# Altium integrated library TI Power Management Linear Regulator Single Channel LDO (0-350mA).IntLib: 1648 symbols (part 27 of 66)
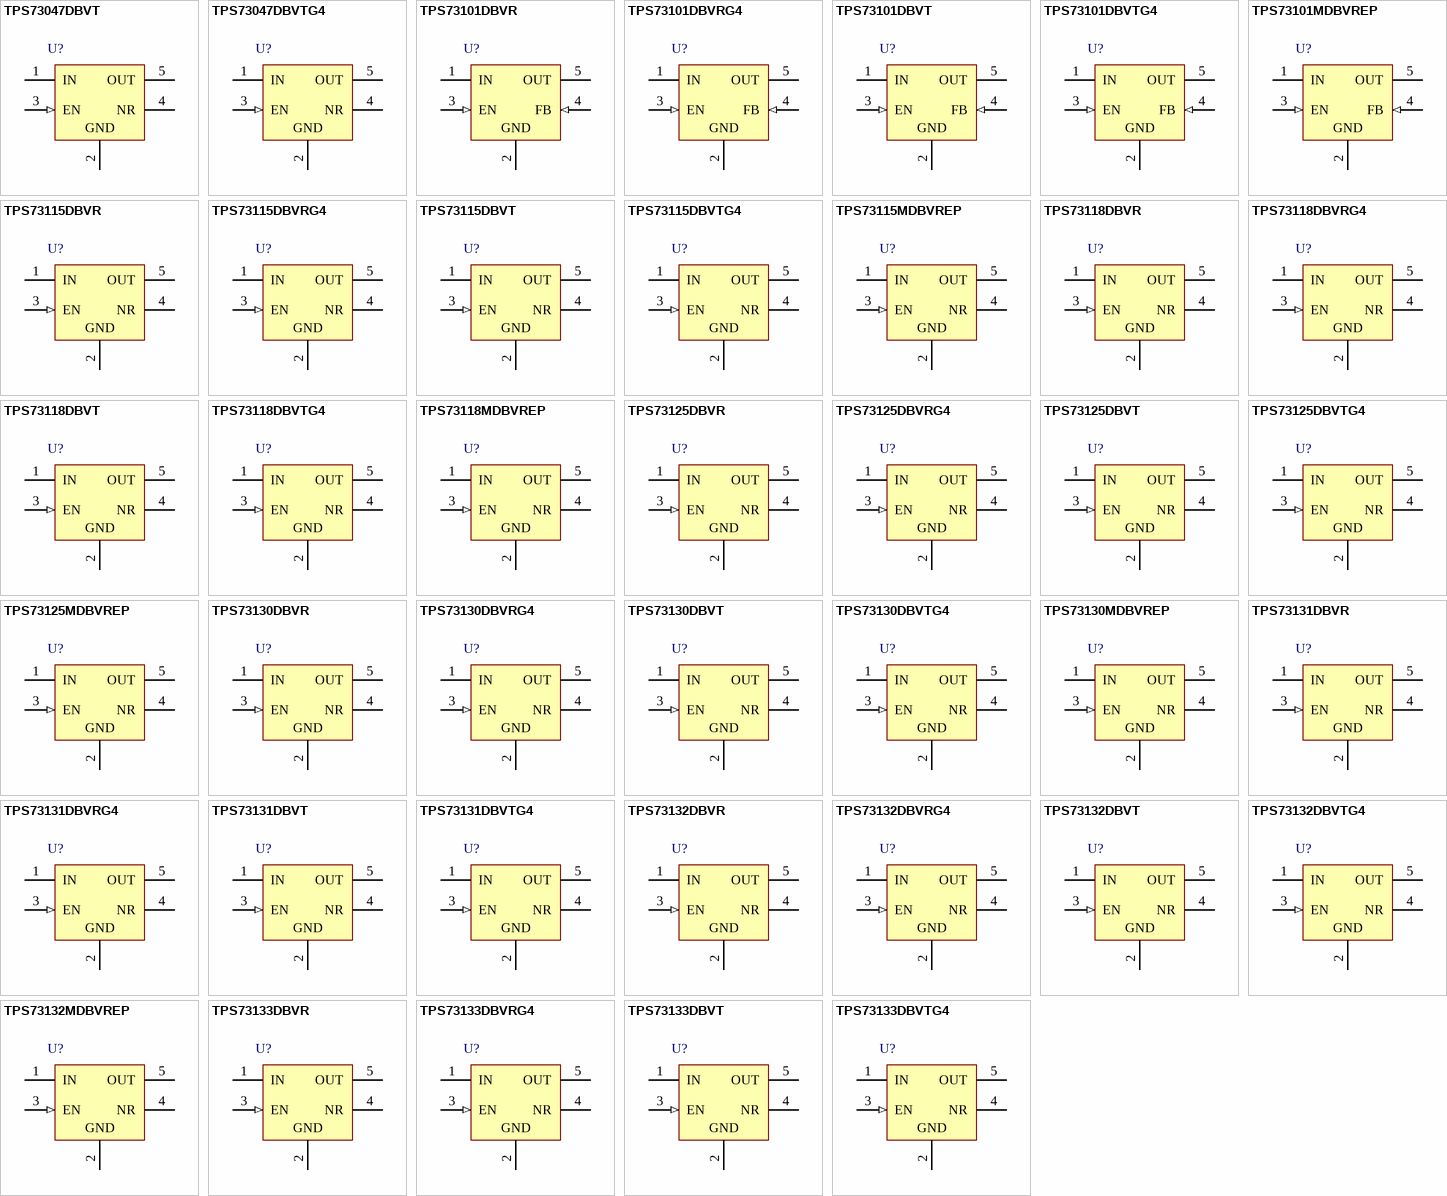
[diagram p68: symbols TPS73047DBVT to TPS73133DBVTG4]

## TPS73132DBVR
designator U?
Single Output Fast Transient Response LDO, 150 mA, Fixed 3.2 V Output, 1.7 to 5.5 V Input, 5-pin SOT-23 (DBV), -40 to 85 degC, Green (RoHS & no Sb/Br); Manufacturer: Texas Instruments; PartNumber: TPS73132DBVR; Accuracy(%): 1; Fixed Output Options(V): 3.2; Iout(Max)(A): 0.15; Iq(Typ)(mA): 0.4; SubFamily: Single Channel LDO; Vdo(Typ)(mV): 30; Vin(Max)(V): 5.5; Vin(Min)(V): 1.7; DatasheetVersion: SBVS034M; PackageVersion: 4073253-4/K; PackageReference: DBV5; PackageDescription: 5-Pin Plastic Small Outline, Body 1.60 × 2.90 mm, Pitch 0.95 mm; Supplier 1: Digi-Key; Supplier Part Number 1: TPS73132DBVR-ND; Supplier 2: Newark; Supplier Part Number 2: 44J2537; Supplier 3: Mouser; Supplier Part Number 3: 595-TPS73132DBVR; Eco-Plan: Green (RoHS & no Sb/Br); Vout Adj(Max)(V): 3.2; Vout Adj(Min)(V): 3.2; Mounting Technology: Surface Mount; Code_JEDEC: MO-178; ComponentLink1Description: Manufacturer URL; ComponentLink1URL: http://www.ti.com/; ComponentLink2Description: Datasheet; ComponentLink2URL: http://www.ti.com/general/docs/lit/getliterature.tsp?genericPartNumber=TPS73132&fileType=pdf; ComponentLink3Description: Package Specification; ComponentLink3URL: http://www.ti.com/litv/pdf/mpds018i
footprint TI-DBV5_N (SOT23, 5-Leads, Body 2.9x1.6mm, Pitch 0.95mm, IPC Medium Density)
footprint TI-DBV5_L (SOT23, 5-Leads, Body 2.9x1.6mm, Pitch 0.95mm, IPC High Density)
footprint TI-DBV5_M (SOT23, 5-Leads, Body 2.9x1.6mm, Pitch 0.95mm, IPC Low Density)
pins: 1 IN (power) "Input supply.", 2 GND (power) "Ground.", 3 EN (in) "Driving the enable pin (EN) high turns on the regulator .Driving this pin low puts the regulator into shutdown mode.EN can be connected to IN if not used.", 4 NR "Fixed voltage versions only; connecting an external capacitor to this pin bypasses noise generated by the internal bandgap. This capacitor allows output noise to be reduced to very low levels.", 5 OUT (power) "Output for the regulator. A small capacitor (total typical capacitance >= 2.0uF ceramic) is needed from this pin to ground to assure stability."

## TPS73132DBVRG4
designator U?
Single Output Fast Transient Response LDO, 150 mA, Fixed 3.2 V Output, 1.7 to 5.5 V Input, 5-pin SOT-23 (DBV), -40 to 85 degC, Green (RoHS & no Sb/Br); Manufacturer: Texas Instruments; PartNumber: TPS73132DBVRG4; Accuracy(%): 1; Fixed Output Options(V): 3.2; Iout(Max)(A): 0.15; Iq(Typ)(mA): 0.4; SubFamily: Single Channel LDO; Vdo(Typ)(mV): 30; Vin(Max)(V): 5.5; Vin(Min)(V): 1.7; DatasheetVersion: SBVS034M; PackageVersion: 4073253-4/K; PackageReference: DBV5; PackageDescription: 5-Pin Plastic Small Outline, Body 1.60 × 2.90 mm, Pitch 0.95 mm; Supplier 1: Digi-Key; Supplier Part Number 1: TPS73132DBVRG4-ND; Supplier 2: Newark; Supplier Part Number 2: 27M1104; Supplier 3: Mouser; Supplier Part Number 3: 595-TPS73132DBVRG4; Eco-Plan: Green (RoHS & no Sb/Br); Vout Adj(Max)(V): 3.2; Vout Adj(Min)(V): 3.2; Mounting Technology: Surface Mount; Code_JEDEC: MO-178; ComponentLink1Description: Manufacturer URL; ComponentLink1URL: http://www.ti.com/; ComponentLink2Description: Datasheet; ComponentLink2URL: http://www.ti.com/general/docs/lit/getliterature.tsp?genericPartNumber=TPS73132&fileType=pdf; ComponentLink3Description: Package Specification; ComponentLink3URL: http://www.ti.com/litv/pdf/mpds018i
footprint TI-DBV5_N (SOT23, 5-Leads, Body 2.9x1.6mm, Pitch 0.95mm, IPC Medium Density)
footprint TI-DBV5_L (SOT23, 5-Leads, Body 2.9x1.6mm, Pitch 0.95mm, IPC High Density)
footprint TI-DBV5_M (SOT23, 5-Leads, Body 2.9x1.6mm, Pitch 0.95mm, IPC Low Density)
pins: 1 IN (power) "Input supply.", 2 GND (power) "Ground.", 3 EN (in) "Driving the enable pin (EN) high turns on the regulator .Driving this pin low puts the regulator into shutdown mode.EN can be connected to IN if not used.", 4 NR "Fixed voltage versions only; connecting an external capacitor to this pin bypasses noise generated by the internal bandgap. This capacitor allows output noise to be reduced to very low levels.", 5 OUT (power) "Output for the regulator. A small capacitor (total typical capacitance >= 2.0uF ceramic) is needed from this pin to ground to assure stability."

## TPS73132DBVT
designator U?
Single Output Fast Transient Response LDO, 150 mA, Fixed 3.2 V Output, 1.7 to 5.5 V Input, 5-pin SOT-23 (DBV), -40 to 85 degC, Green (RoHS & no Sb/Br); Manufacturer: Texas Instruments; PartNumber: TPS73132DBVT; Accuracy(%): 1; Fixed Output Options(V): 3.2; Iout(Max)(A): 0.15; Iq(Typ)(mA): 0.4; SubFamily: Single Channel LDO; Vdo(Typ)(mV): 30; Vin(Max)(V): 5.5; Vin(Min)(V): 1.7; DatasheetVersion: SBVS034M; PackageVersion: 4073253-4/K; PackageReference: DBV5; PackageDescription: 5-Pin Plastic Small Outline, Body 1.60 × 2.90 mm, Pitch 0.95 mm; Supplier 1: Digi-Key; Supplier Part Number 1: 296-17422-2-ND; Supplier 2: Digi-Key; Supplier Part Number 2: 296-17422-1-ND; Supplier 3: Digi-Key; Supplier Part Number 3: 296-17422-6-ND; Supplier 4: Newark; Supplier Part Number 4: 44J2538; Supplier 5: Mouser; Supplier Part Number 5: 595-TPS73132DBVT; Eco-Plan: Green (RoHS & no Sb/Br); Vout Adj(Max)(V): 3.2; Vout Adj(Min)(V): 3.2; Mounting Technology: Surface Mount; Code_JEDEC: MO-178; ComponentLink1Description: Manufacturer URL; ComponentLink1URL: http://www.ti.com/; ComponentLink2Description: Datasheet; ComponentLink2URL: http://www.ti.com/general/docs/lit/getliterature.tsp?genericPartNumber=TPS73132&fileType=pdf; ComponentLink3Description: Package Specification; ComponentLink3URL: http://www.ti.com/litv/pdf/mpds018i
footprint TI-DBV5_N (SOT23, 5-Leads, Body 2.9x1.6mm, Pitch 0.95mm, IPC Medium Density)
footprint TI-DBV5_L (SOT23, 5-Leads, Body 2.9x1.6mm, Pitch 0.95mm, IPC High Density)
footprint TI-DBV5_M (SOT23, 5-Leads, Body 2.9x1.6mm, Pitch 0.95mm, IPC Low Density)
pins: 1 IN (power) "Input supply.", 2 GND (power) "Ground.", 3 EN (in) "Driving the enable pin (EN) high turns on the regulator .Driving this pin low puts the regulator into shutdown mode.EN can be connected to IN if not used.", 4 NR "Fixed voltage versions only; connecting an external capacitor to this pin bypasses noise generated by the internal bandgap. This capacitor allows output noise to be reduced to very low levels.", 5 OUT (power) "Output for the regulator. A small capacitor (total typical capacitance >= 2.0uF ceramic) is needed from this pin to ground to assure stability."

## TPS73132DBVTG4
designator U?
Single Output Fast Transient Response LDO, 150 mA, Fixed 3.2 V Output, 1.7 to 5.5 V Input, 5-pin SOT-23 (DBV), -40 to 85 degC, Green (RoHS & no Sb/Br); Manufacturer: Texas Instruments; PartNumber: TPS73132DBVTG4; Accuracy(%): 1; Fixed Output Options(V): 3.2; Iout(Max)(A): 0.15; Iq(Typ)(mA): 0.4; SubFamily: Single Channel LDO; Vdo(Typ)(mV): 30; Vin(Max)(V): 5.5; Vin(Min)(V): 1.7; DatasheetVersion: SBVS034M; PackageVersion: 4073253-4/K; PackageReference: DBV5; PackageDescription: 5-Pin Plastic Small Outline, Body 1.60 × 2.90 mm, Pitch 0.95 mm; Supplier 1: Digi-Key; Supplier Part Number 1: TPS73132DBVTG4-ND; Supplier 2: Mouser; Supplier Part Number 2: 595-TPS73132DBVTG4; Eco-Plan: Green (RoHS & no Sb/Br); Vout Adj(Max)(V): 3.2; Vout Adj(Min)(V): 3.2; Mounting Technology: Surface Mount; Code_JEDEC: MO-178; ComponentLink1Description: Manufacturer URL; ComponentLink1URL: http://www.ti.com/; ComponentLink2Description: Datasheet; ComponentLink2URL: http://www.ti.com/general/docs/lit/getliterature.tsp?genericPartNumber=TPS73132&fileType=pdf; ComponentLink3Description: Package Specification; ComponentLink3URL: http://www.ti.com/litv/pdf/mpds018i
footprint TI-DBV5_N (SOT23, 5-Leads, Body 2.9x1.6mm, Pitch 0.95mm, IPC Medium Density)
footprint TI-DBV5_L (SOT23, 5-Leads, Body 2.9x1.6mm, Pitch 0.95mm, IPC High Density)
footprint TI-DBV5_M (SOT23, 5-Leads, Body 2.9x1.6mm, Pitch 0.95mm, IPC Low Density)
pins: 1 IN (power) "Input supply.", 2 GND (power) "Ground.", 3 EN (in) "Driving the enable pin (EN) high turns on the regulator .Driving this pin low puts the regulator into shutdown mode.EN can be connected to IN if not used.", 4 NR "Fixed voltage versions only; connecting an external capacitor to this pin bypasses noise generated by the internal bandgap. This capacitor allows output noise to be reduced to very low levels.", 5 OUT (power) "Output for the regulator. A small capacitor (total typical capacitance >= 2.0uF ceramic) is needed from this pin to ground to assure stability."

## TPS73132MDBVREP
designator U?
Single Output LDO, 150 mA, Fixed 3.2 V Output, 1.7 to 5.5 V Input, with Reverse Current Protection, 5-pin SOT-23 (DBV), -55 to 125 degC, Green (RoHS & no Sb/Br); Manufacturer: Texas Instruments; PartNumber: TPS73132MDBVREP; Accuracy(%): 1; Fixed Output Options(V): 3.2; Iout(Max)(A): 0.15; Iq(Typ)(mA): 0.4; SubFamily: Single Channel LDO; Vdo(Typ)(mV): 30; Vin(Max)(V): 5.5; Vin(Min)(V): 1.7; DatasheetVersion: SGLS347A; PackageVersion: 4073253-4/K; PackageReference: DBV5; PackageDescription: 5-Pin Plastic Small Outline, Body 1.60 × 2.90 mm, Pitch 0.95 mm; Supplier 1: Digi-Key; Supplier Part Number 1: 296-22488-2-ND; Supplier 2: Digi-Key; Supplier Part Number 2: 296-22488-1-ND; Supplier 3: Digi-Key; Supplier Part Number 3: 296-22488-6-ND; Supplier 4: Newark; Supplier Part Number 4: 46M1142; Supplier 5: Mouser; Supplier Part Number 5: 595-TPS73132MDBVREP; Eco-Plan: Green (RoHS & no Sb/Br); Vout Adj(Max)(V): 3.2; Vout Adj(Min)(V): 3.2; Mounting Technology: Surface Mount; Code_JEDEC: MO-178; ComponentLink1Description: Manufacturer URL; ComponentLink1URL: http://www.ti.com/; ComponentLink2Description: Datasheet; ComponentLink2URL: http://www.ti.com/general/docs/lit/getliterature.tsp?genericPartNumber=TPS73132-EP&fileType=pdf; ComponentLink3Description: Package Specification; ComponentLink3URL: http://www.ti.com/litv/pdf/mpds018i
footprint TI-DBV5_N (SOT23, 5-Leads, Body 2.9x1.6mm, Pitch 0.95mm, IPC Medium Density)
footprint TI-DBV5_L (SOT23, 5-Leads, Body 2.9x1.6mm, Pitch 0.95mm, IPC High Density)
footprint TI-DBV5_M (SOT23, 5-Leads, Body 2.9x1.6mm, Pitch 0.95mm, IPC Low Density)
pins: 1 IN (power) "Input supply.", 2 GND (power) "Ground.", 3 EN (in) "Driving the enable pin (EN) high turns on the regulator .Driving this pin low puts the regulator into shutdown mode.EN can be connected to IN if not used.", 4 NR "Fixed voltage versions only; connecting an external capacitor to this pin bypasses noise generated by the internal bandgap. This capacitor allows output noise to be reduced to very low levels.", 5 OUT (power) "Output for the regulator. A small capacitor (total typical capacitance >= 2.0uF ceramic) is needed from this pin to ground to assure stability."

## TPS73133DBVR
designator U?
Single Output Fast Transient Response LDO, 150 mA, Fixed 3.3 V Output, 1.7 to 5.5 V Input, 5-pin SOT-23 (DBV), -40 to 85 degC, Green (RoHS & no Sb/Br); Manufacturer: Texas Instruments; PartNumber: TPS73133DBVR; Accuracy(%): 1; Fixed Output Options(V): 3.3; Iout(Max)(A): 0.15; Iq(Typ)(mA): 0.4; SubFamily: Single Channel LDO; Vdo(Typ)(mV): 30; Vin(Max)(V): 5.5; Vin(Min)(V): 1.7; DatasheetVersion: SBVS034M; PackageVersion: 4073253-4/K; PackageReference: DBV5; PackageDescription: 5-Pin Plastic Small Outline, Body 1.60 × 2.90 mm, Pitch 0.95 mm; Supplier 1: Digi-Key; Supplier Part Number 1: 296-32553-2-ND; Supplier 2: Digi-Key; Supplier Part Number 2: 296-32553-1-ND; Supplier 3: Digi-Key; Supplier Part Number 3: 296-32553-6-ND; Supplier 4: Newark; Supplier Part Number 4: 87H2953; Supplier 5: Mouser; Supplier Part Number 5: 595-TPS73133DBVR; Eco-Plan: Green (RoHS & no Sb/Br); Vout Adj(Max)(V): 3.3; Vout Adj(Min)(V): 3.3; Mounting Technology: Surface Mount; Code_JEDEC: MO-178; ComponentLink1Description: Manufacturer URL; ComponentLink1URL: http://www.ti.com/; ComponentLink2Description: Datasheet; ComponentLink2URL: http://www.ti.com/general/docs/lit/getliterature.tsp?genericPartNumber=TPS73133&fileType=pdf; ComponentLink3Description: Package Specification; ComponentLink3URL: http://www.ti.com/litv/pdf/mpds018i
footprint TI-DBV5_N (SOT23, 5-Leads, Body 2.9x1.6mm, Pitch 0.95mm, IPC Medium Density)
footprint TI-DBV5_L (SOT23, 5-Leads, Body 2.9x1.6mm, Pitch 0.95mm, IPC High Density)
footprint TI-DBV5_M (SOT23, 5-Leads, Body 2.9x1.6mm, Pitch 0.95mm, IPC Low Density)
pins: 1 IN (power) "Input supply.", 2 GND (power) "Ground.", 3 EN (in) "Driving the enable pin (EN) high turns on the regulator .Driving this pin low puts the regulator into shutdown mode.EN can be connected to IN if not used.", 4 NR "Fixed voltage versions only; connecting an external capacitor to this pin bypasses noise generated by the internal bandgap. This capacitor allows output noise to be reduced to very low levels.", 5 OUT (power) "Output for the regulator. A small capacitor (total typical capacitance >= 2.0uF ceramic) is needed from this pin to ground to assure stability."

## TPS73133DBVRG4
designator U?
Single Output Fast Transient Response LDO, 150 mA, Fixed 3.3 V Output, 1.7 to 5.5 V Input, 5-pin SOT-23 (DBV), -40 to 85 degC, Green (RoHS & no Sb/Br); Manufacturer: Texas Instruments; PartNumber: TPS73133DBVRG4; Accuracy(%): 1; Fixed Output Options(V): 3.3; Iout(Max)(A): 0.15; Iq(Typ)(mA): 0.4; SubFamily: Single Channel LDO; Vdo(Typ)(mV): 30; Vin(Max)(V): 5.5; Vin(Min)(V): 1.7; DatasheetVersion: SBVS034M; PackageVersion: 4073253-4/K; PackageReference: DBV5; PackageDescription: 5-Pin Plastic Small Outline, Body 1.60 × 2.90 mm, Pitch 0.95 mm; Supplier 1: Digi-Key; Supplier Part Number 1: TPS73133DBVRG4-ND; Supplier 2: Newark; Supplier Part Number 2: 33K7696; Supplier 3: Mouser; Supplier Part Number 3: 595-TPS73133DBVRG4; Eco-Plan: Green (RoHS & no Sb/Br); Vout Adj(Max)(V): 3.3; Vout Adj(Min)(V): 3.3; Mounting Technology: Surface Mount; Code_JEDEC: MO-178; ComponentLink1Description: Manufacturer URL; ComponentLink1URL: http://www.ti.com/; ComponentLink2Description: Datasheet; ComponentLink2URL: http://www.ti.com/general/docs/lit/getliterature.tsp?genericPartNumber=TPS73133&fileType=pdf; ComponentLink3Description: Package Specification; ComponentLink3URL: http://www.ti.com/litv/pdf/mpds018i
footprint TI-DBV5_N (SOT23, 5-Leads, Body 2.9x1.6mm, Pitch 0.95mm, IPC Medium Density)
footprint TI-DBV5_L (SOT23, 5-Leads, Body 2.9x1.6mm, Pitch 0.95mm, IPC High Density)
footprint TI-DBV5_M (SOT23, 5-Leads, Body 2.9x1.6mm, Pitch 0.95mm, IPC Low Density)
pins: 1 IN (power) "Input supply.", 2 GND (power) "Ground.", 3 EN (in) "Driving the enable pin (EN) high turns on the regulator .Driving this pin low puts the regulator into shutdown mode.EN can be connected to IN if not used.", 4 NR "Fixed voltage versions only; connecting an external capacitor to this pin bypasses noise generated by the internal bandgap. This capacitor allows output noise to be reduced to very low levels.", 5 OUT (power) "Output for the regulator. A small capacitor (total typical capacitance >= 2.0uF ceramic) is needed from this pin to ground to assure stability."

## TPS73133DBVT
designator U?
Single Output Fast Transient Response LDO, 150 mA, Fixed 3.3 V Output, 1.7 to 5.5 V Input, 5-pin SOT-23 (DBV), -40 to 85 degC, Green (RoHS & no Sb/Br); Manufacturer: Texas Instruments; PartNumber: TPS73133DBVT; Accuracy(%): 1; Fixed Output Options(V): 3.3; Iout(Max)(A): 0.15; Iq(Typ)(mA): 0.4; SubFamily: Single Channel LDO; Vdo(Typ)(mV): 30; Vin(Max)(V): 5.5; Vin(Min)(V): 1.7; DatasheetVersion: SBVS034M; PackageVersion: 4073253-4/K; PackageReference: DBV5; PackageDescription: 5-Pin Plastic Small Outline, Body 1.60 × 2.90 mm, Pitch 0.95 mm; Supplier 1: Digi-Key; Supplier Part Number 1: 296-15805-2-ND; Supplier 2: Digi-Key; Supplier Part Number 2: 296-15805-1-ND; Supplier 3: Digi-Key; Supplier Part Number 3: 296-15805-6-ND; Supplier 4: Newark; Supplier Part Number 4: 87H2954; Supplier 5: Mouser; Supplier Part Number 5: 595-TPS73133DBVT; Eco-Plan: Green (RoHS & no Sb/Br); Vout Adj(Max)(V): 3.3; Vout Adj(Min)(V): 3.3; Mounting Technology: Surface Mount; Code_JEDEC: MO-178; ComponentLink1Description: Manufacturer URL; ComponentLink1URL: http://www.ti.com/; ComponentLink2Description: Datasheet; ComponentLink2URL: http://www.ti.com/general/docs/lit/getliterature.tsp?genericPartNumber=TPS73133&fileType=pdf; ComponentLink3Description: Package Specification; ComponentLink3URL: http://www.ti.com/litv/pdf/mpds018i
footprint TI-DBV5_N (SOT23, 5-Leads, Body 2.9x1.6mm, Pitch 0.95mm, IPC Medium Density)
footprint TI-DBV5_L (SOT23, 5-Leads, Body 2.9x1.6mm, Pitch 0.95mm, IPC High Density)
footprint TI-DBV5_M (SOT23, 5-Leads, Body 2.9x1.6mm, Pitch 0.95mm, IPC Low Density)
pins: 1 IN (power) "Input supply.", 2 GND (power) "Ground.", 3 EN (in) "Driving the enable pin (EN) high turns on the regulator .Driving this pin low puts the regulator into shutdown mode.EN can be connected to IN if not used.", 4 NR "Fixed voltage versions only; connecting an external capacitor to this pin bypasses noise generated by the internal bandgap. This capacitor allows output noise to be reduced to very low levels.", 5 OUT (power) "Output for the regulator. A small capacitor (total typical capacitance >= 2.0uF ceramic) is needed from this pin to ground to assure stability."

## TPS73133DBVTG4
designator U?
Single Output Fast Transient Response LDO, 150 mA, Fixed 3.3 V Output, 1.7 to 5.5 V Input, 5-pin SOT-23 (DBV), -40 to 85 degC, Green (RoHS & no Sb/Br); Manufacturer: Texas Instruments; PartNumber: TPS73133DBVTG4; Accuracy(%): 1; Fixed Output Options(V): 3.3; Iout(Max)(A): 0.15; Iq(Typ)(mA): 0.4; SubFamily: Single Channel LDO; Vdo(Typ)(mV): 30; Vin(Max)(V): 5.5; Vin(Min)(V): 1.7; DatasheetVersion: SBVS034M; PackageVersion: 4073253-4/K; PackageReference: DBV5; PackageDescription: 5-Pin Plastic Small Outline, Body 1.60 × 2.90 mm, Pitch 0.95 mm; Supplier 1: Digi-Key; Supplier Part Number 1: TPS73133DBVTG4-ND; Supplier 2: Farnell; Supplier Part Number 2: 1207341; Supplier 3: Farnell; Supplier Part Number 3: 1207341RL; Supplier 4: Newark; Supplier Part Number 4: 62M0774; Supplier 5: Newark; Supplier Part Number 5: 33K7697; Supplier 6: Mouser; Supplier Part Number 6: 595-TPS73133DBVTG4; Eco-Plan: Green (RoHS & no Sb/Br); Vout Adj(Max)(V): 3.3; Vout Adj(Min)(V): 3.3; Mounting Technology: Surface Mount; Code_JEDEC: MO-178; ComponentLink1Description: Manufacturer URL; ComponentLink1URL: http://www.ti.com/; ComponentLink2Description: Datasheet; ComponentLink2URL: http://www.ti.com/general/docs/lit/getliterature.tsp?genericPartNumber=TPS73133&fileType=pdf; ComponentLink3Description: Package Specification; ComponentLink3URL: http://www.ti.com/litv/pdf/mpds018i
footprint TI-DBV5_N (SOT23, 5-Leads, Body 2.9x1.6mm, Pitch 0.95mm, IPC Medium Density)
footprint TI-DBV5_L (SOT23, 5-Leads, Body 2.9x1.6mm, Pitch 0.95mm, IPC High Density)
footprint TI-DBV5_M (SOT23, 5-Leads, Body 2.9x1.6mm, Pitch 0.95mm, IPC Low Density)
pins: 1 IN (power) "Input supply.", 2 GND (power) "Ground.", 3 EN (in) "Driving the enable pin (EN) high turns on the regulator .Driving this pin low puts the regulator into shutdown mode.EN can be connected to IN if not used.", 4 NR "Fixed voltage versions only; connecting an external capacitor to this pin bypasses noise generated by the internal bandgap. This capacitor allows output noise to be reduced to very low levels.", 5 OUT (power) "Output for the regulator. A small capacitor (total typical capacitance >= 2.0uF ceramic) is needed from this pin to ground to assure stability."

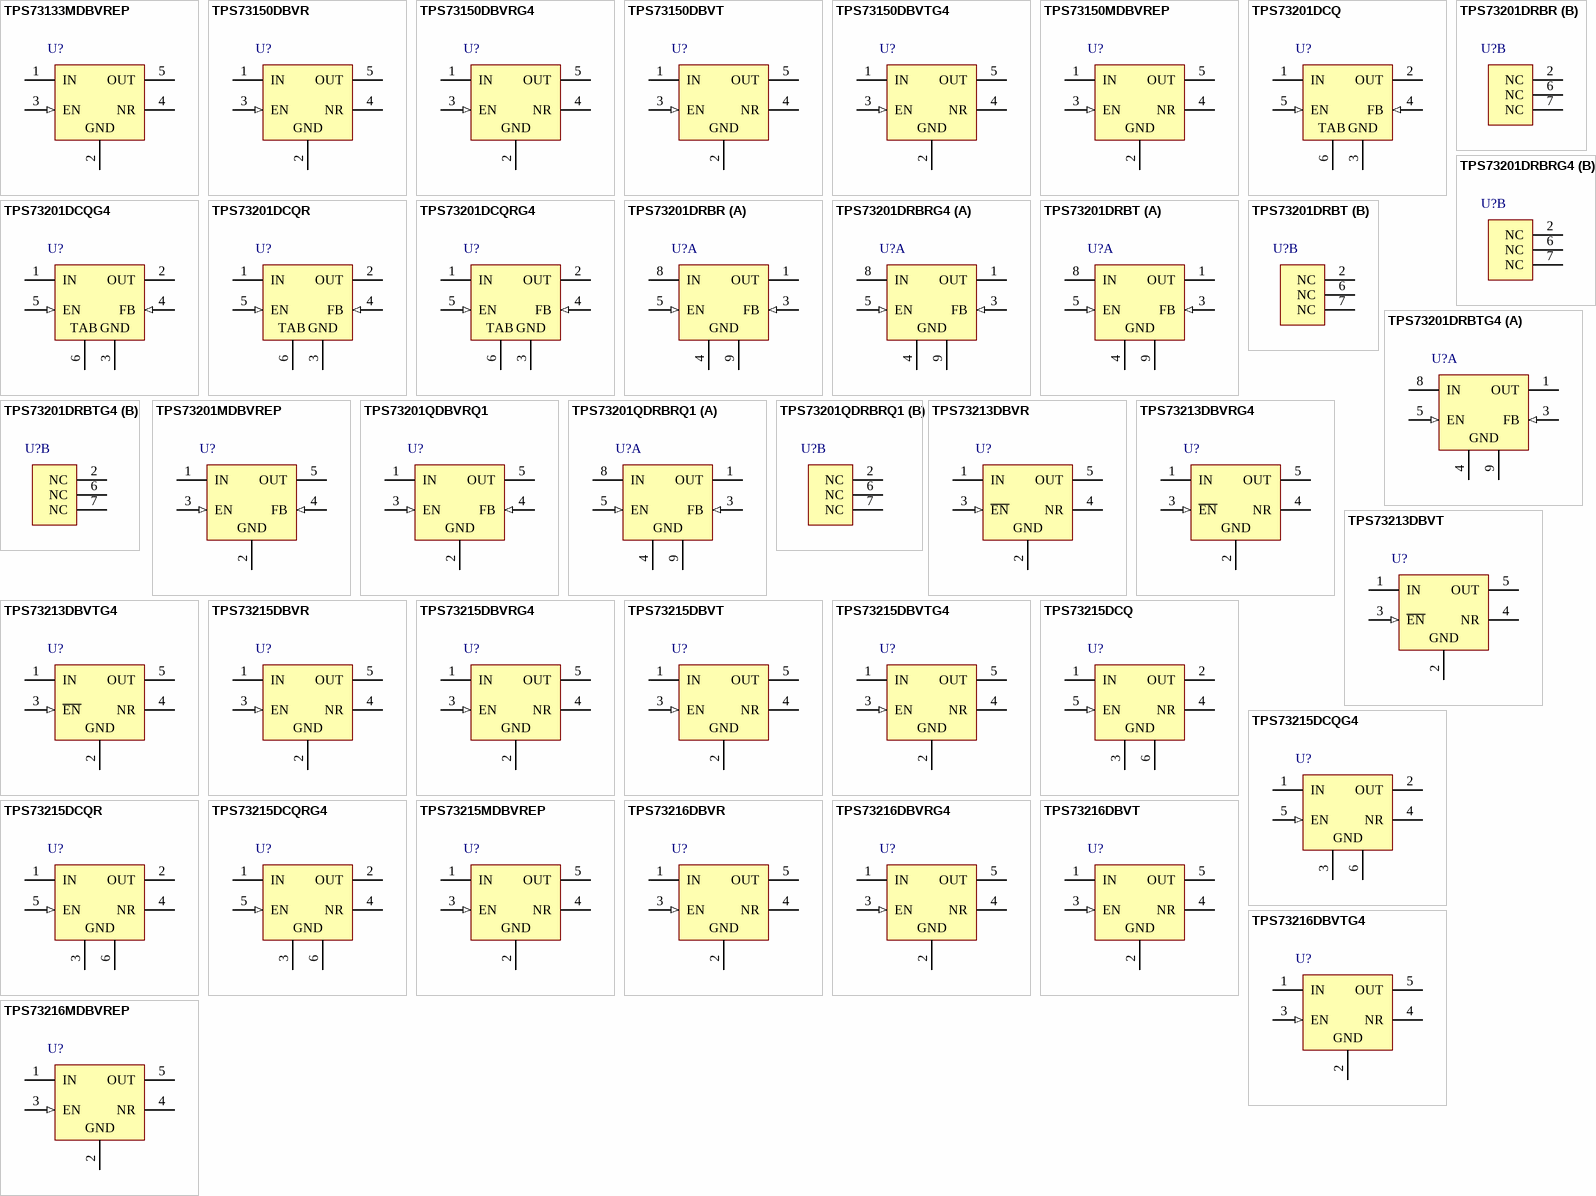
[diagram p18: symbols TPS73133MDBVREP to TPS73216MDBVREP]

## TPS73133MDBVREP
designator U?
Single Output LDO, 150 mA, Fixed 3.3 V Output, 1.7 to 5.5 V Input, with Reverse Current Protection, 5-pin SOT-23 (DBV), -55 to 125 degC, Green (RoHS & no Sb/Br); Manufacturer: Texas Instruments; PartNumber: TPS73133MDBVREP; Accuracy(%): 1; Fixed Output Options(V): 3.3; Iout(Max)(A): 0.15; Iq(Typ)(mA): 0.4; SubFamily: Single Channel LDO; Vdo(Typ)(mV): 30; Vin(Max)(V): 5.5; Vin(Min)(V): 1.7; DatasheetVersion: SGLS347A; PackageVersion: 4073253-4/K; PackageReference: DBV5; PackageDescription: 5-Pin Plastic Small Outline, Body 1.60 × 2.90 mm, Pitch 0.95 mm; Supplier 1: Digi-Key; Supplier Part Number 1: 296-22489-2-ND; Supplier 2: Digi-Key; Supplier Part Number 2: 296-22489-1-ND; Supplier 3: Digi-Key; Supplier Part Number 3: 296-22489-6-ND; Supplier 4: Newark; Supplier Part Number 4: 46M1143; Supplier 5: Mouser; Supplier Part Number 5: 595-TPS73133MDBVREP; Eco-Plan: Green (RoHS & no Sb/Br); Vout Adj(Max)(V): 3.3; Vout Adj(Min)(V): 3.3; Mounting Technology: Surface Mount; Code_JEDEC: MO-178; ComponentLink1Description: Manufacturer URL; ComponentLink1URL: http://www.ti.com/; ComponentLink2Description: Datasheet; ComponentLink2URL: http://www.ti.com/general/docs/lit/getliterature.tsp?genericPartNumber=TPS73133-EP&fileType=pdf; ComponentLink3Description: Package Specification; ComponentLink3URL: http://www.ti.com/litv/pdf/mpds018i
footprint TI-DBV5_N (SOT23, 5-Leads, Body 2.9x1.6mm, Pitch 0.95mm, IPC Medium Density)
footprint TI-DBV5_L (SOT23, 5-Leads, Body 2.9x1.6mm, Pitch 0.95mm, IPC High Density)
footprint TI-DBV5_M (SOT23, 5-Leads, Body 2.9x1.6mm, Pitch 0.95mm, IPC Low Density)
pins: 1 IN (power) "Input supply.", 2 GND (power) "Ground.", 3 EN (in) "Driving the enable pin (EN) high turns on the regulator .Driving this pin low puts the regulator into shutdown mode.EN can be connected to IN if not used.", 4 NR "Fixed voltage versions only; connecting an external capacitor to this pin bypasses noise generated by the internal bandgap. This capacitor allows output noise to be reduced to very low levels.", 5 OUT (power) "Output for the regulator. A small capacitor (total typical capacitance >= 2.0uF ceramic) is needed from this pin to ground to assure stability."

## TPS73150DBVR
designator U?
Single Output Fast Transient Response LDO, 150 mA, Fixed 5 V Output, 1.7 to 5.5 V Input, 5-pin SOT-23 (DBV), -40 to 85 degC, Green (RoHS & no Sb/Br); Manufacturer: Texas Instruments; PartNumber: TPS73150DBVR; Accuracy(%): 1; Fixed Output Options(V): 5; Iout(Max)(A): 0.15; Iq(Typ)(mA): 0.4; SubFamily: Single Channel LDO; Vdo(Typ)(mV): 30; Vin(Max)(V): 5.5; Vin(Min)(V): 1.7; DatasheetVersion: SBVS034M; PackageVersion: 4073253-4/K; PackageReference: DBV5; PackageDescription: 5-Pin Plastic Small Outline, Body 1.60 × 2.90 mm, Pitch 0.95 mm; Supplier 1: Digi-Key; Supplier Part Number 1: TPS73150DBVR-ND; Supplier 2: Newark; Supplier Part Number 2: 87H2955; Supplier 3: Mouser; Supplier Part Number 3: 595-TPS73150DBVR; Eco-Plan: Green (RoHS & no Sb/Br); Vout Adj(Max)(V): 5; Vout Adj(Min)(V): 5; Mounting Technology: Surface Mount; Code_JEDEC: MO-178; ComponentLink1Description: Manufacturer URL; ComponentLink1URL: http://www.ti.com/; ComponentLink2Description: Datasheet; ComponentLink2URL: http://www.ti.com/general/docs/lit/getliterature.tsp?genericPartNumber=TPS73150&fileType=pdf; ComponentLink3Description: Package Specification; ComponentLink3URL: http://www.ti.com/litv/pdf/mpds018i
footprint TI-DBV5_N (SOT23, 5-Leads, Body 2.9x1.6mm, Pitch 0.95mm, IPC Medium Density)
footprint TI-DBV5_L (SOT23, 5-Leads, Body 2.9x1.6mm, Pitch 0.95mm, IPC High Density)
footprint TI-DBV5_M (SOT23, 5-Leads, Body 2.9x1.6mm, Pitch 0.95mm, IPC Low Density)
pins: 1 IN (power) "Input supply.", 2 GND (power) "Ground.", 3 EN (in) "Driving the enable pin (EN) high turns on the regulator .Driving this pin low puts the regulator into shutdown mode.EN can be connected to IN if not used.", 4 NR "Fixed voltage versions only; connecting an external capacitor to this pin bypasses noise generated by the internal bandgap. This capacitor allows output noise to be reduced to very low levels.", 5 OUT (power) "Output for the regulator. A small capacitor (total typical capacitance >= 2.0uF ceramic) is needed from this pin to ground to assure stability."

## TPS73150DBVRG4
designator U?
Single Output Fast Transient Response LDO, 150 mA, Fixed 5 V Output, 1.7 to 5.5 V Input, 5-pin SOT-23 (DBV), -40 to 85 degC, Green (RoHS & no Sb/Br); Manufacturer: Texas Instruments; PartNumber: TPS73150DBVRG4; Accuracy(%): 1; Fixed Output Options(V): 5; Iout(Max)(A): 0.15; Iq(Typ)(mA): 0.4; SubFamily: Single Channel LDO; Vdo(Typ)(mV): 30; Vin(Max)(V): 5.5; Vin(Min)(V): 1.7; DatasheetVersion: SBVS034M; PackageVersion: 4073253-4/K; PackageReference: DBV5; PackageDescription: 5-Pin Plastic Small Outline, Body 1.60 × 2.90 mm, Pitch 0.95 mm; Supplier 1: Digi-Key; Supplier Part Number 1: TPS73150DBVRG4-ND; Supplier 2: Mouser; Supplier Part Number 2: 595-TPS73150DBVRG4; Eco-Plan: Green (RoHS & no Sb/Br); Vout Adj(Max)(V): 5; Vout Adj(Min)(V): 5; Mounting Technology: Surface Mount; Code_JEDEC: MO-178; ComponentLink1Description: Manufacturer URL; ComponentLink1URL: http://www.ti.com/; ComponentLink2Description: Datasheet; ComponentLink2URL: http://www.ti.com/general/docs/lit/getliterature.tsp?genericPartNumber=TPS73150&fileType=pdf; ComponentLink3Description: Package Specification; ComponentLink3URL: http://www.ti.com/litv/pdf/mpds018i
footprint TI-DBV5_N (SOT23, 5-Leads, Body 2.9x1.6mm, Pitch 0.95mm, IPC Medium Density)
footprint TI-DBV5_L (SOT23, 5-Leads, Body 2.9x1.6mm, Pitch 0.95mm, IPC High Density)
footprint TI-DBV5_M (SOT23, 5-Leads, Body 2.9x1.6mm, Pitch 0.95mm, IPC Low Density)
pins: 1 IN (power) "Input supply.", 2 GND (power) "Ground.", 3 EN (in) "Driving the enable pin (EN) high turns on the regulator .Driving this pin low puts the regulator into shutdown mode.EN can be connected to IN if not used.", 4 NR "Fixed voltage versions only; connecting an external capacitor to this pin bypasses noise generated by the internal bandgap. This capacitor allows output noise to be reduced to very low levels.", 5 OUT (power) "Output for the regulator. A small capacitor (total typical capacitance >= 2.0uF ceramic) is needed from this pin to ground to assure stability."

## TPS73150DBVT
designator U?
Single Output Fast Transient Response LDO, 150 mA, Fixed 5 V Output, 1.7 to 5.5 V Input, 5-pin SOT-23 (DBV), -40 to 85 degC, Green (RoHS & no Sb/Br); Manufacturer: Texas Instruments; PartNumber: TPS73150DBVT; Accuracy(%): 1; Fixed Output Options(V): 5; Iout(Max)(A): 0.15; Iq(Typ)(mA): 0.4; SubFamily: Single Channel LDO; Vdo(Typ)(mV): 30; Vin(Max)(V): 5.5; Vin(Min)(V): 1.7; DatasheetVersion: SBVS034M; PackageVersion: 4073253-4/K; PackageReference: DBV5; PackageDescription: 5-Pin Plastic Small Outline, Body 1.60 × 2.90 mm, Pitch 0.95 mm; Supplier 1: Digi-Key; Supplier Part Number 1: 296-15806-2-ND; Supplier 2: Digi-Key; Supplier Part Number 2: 296-15806-1-ND; Supplier 3: Digi-Key; Supplier Part Number 3: 296-15806-6-ND; Supplier 4: Farnell; Supplier Part Number 4: 1670630; Supplier 5: Newark; Supplier Part Number 5: 87H2956; Supplier 6: Mouser; Supplier Part Number 6: 595-TPS73150DBVT; Eco-Plan: Green (RoHS & no Sb/Br); Vout Adj(Max)(V): 5; Vout Adj(Min)(V): 5; Mounting Technology: Surface Mount; Code_JEDEC: MO-178; ComponentLink1Description: Manufacturer URL; ComponentLink1URL: http://www.ti.com/; ComponentLink2Description: Datasheet; ComponentLink2URL: http://www.ti.com/general/docs/lit/getliterature.tsp?genericPartNumber=TPS73150&fileType=pdf; ComponentLink3Description: Package Specification; ComponentLink3URL: http://www.ti.com/litv/pdf/mpds018i
footprint TI-DBV5_N (SOT23, 5-Leads, Body 2.9x1.6mm, Pitch 0.95mm, IPC Medium Density)
footprint TI-DBV5_L (SOT23, 5-Leads, Body 2.9x1.6mm, Pitch 0.95mm, IPC High Density)
footprint TI-DBV5_M (SOT23, 5-Leads, Body 2.9x1.6mm, Pitch 0.95mm, IPC Low Density)
pins: 1 IN (power) "Input supply.", 2 GND (power) "Ground.", 3 EN (in) "Driving the enable pin (EN) high turns on the regulator .Driving this pin low puts the regulator into shutdown mode.EN can be connected to IN if not used.", 4 NR "Fixed voltage versions only; connecting an external capacitor to this pin bypasses noise generated by the internal bandgap. This capacitor allows output noise to be reduced to very low levels.", 5 OUT (power) "Output for the regulator. A small capacitor (total typical capacitance >= 2.0uF ceramic) is needed from this pin to ground to assure stability."

## TPS73150DBVTG4
designator U?
Single Output Fast Transient Response LDO, 150 mA, Fixed 5 V Output, 1.7 to 5.5 V Input, 5-pin SOT-23 (DBV), -40 to 85 degC, Green (RoHS & no Sb/Br); Manufacturer: Texas Instruments; PartNumber: TPS73150DBVTG4; Accuracy(%): 1; Fixed Output Options(V): 5; Iout(Max)(A): 0.15; Iq(Typ)(mA): 0.4; SubFamily: Single Channel LDO; Vdo(Typ)(mV): 30; Vin(Max)(V): 5.5; Vin(Min)(V): 1.7; DatasheetVersion: SBVS034M; PackageVersion: 4073253-4/K; PackageReference: DBV5; PackageDescription: 5-Pin Plastic Small Outline, Body 1.60 × 2.90 mm, Pitch 0.95 mm; Supplier 1: Digi-Key; Supplier Part Number 1: TPS73150DBVTG4-ND; Supplier 2: Newark; Supplier Part Number 2: 04M0268; Supplier 3: Mouser; Supplier Part Number 3: 595-TPS73150DBVTG4; Eco-Plan: Green (RoHS & no Sb/Br); Vout Adj(Max)(V): 5; Vout Adj(Min)(V): 5; Mounting Technology: Surface Mount; Code_JEDEC: MO-178; ComponentLink1Description: Manufacturer URL; ComponentLink1URL: http://www.ti.com/; ComponentLink2Description: Datasheet; ComponentLink2URL: http://www.ti.com/general/docs/lit/getliterature.tsp?genericPartNumber=TPS73150&fileType=pdf; ComponentLink3Description: Package Specification; ComponentLink3URL: http://www.ti.com/litv/pdf/mpds018i
footprint TI-DBV5_N (SOT23, 5-Leads, Body 2.9x1.6mm, Pitch 0.95mm, IPC Medium Density)
footprint TI-DBV5_L (SOT23, 5-Leads, Body 2.9x1.6mm, Pitch 0.95mm, IPC High Density)
footprint TI-DBV5_M (SOT23, 5-Leads, Body 2.9x1.6mm, Pitch 0.95mm, IPC Low Density)
pins: 1 IN (power) "Input supply.", 2 GND (power) "Ground.", 3 EN (in) "Driving the enable pin (EN) high turns on the regulator .Driving this pin low puts the regulator into shutdown mode.EN can be connected to IN if not used.", 4 NR "Fixed voltage versions only; connecting an external capacitor to this pin bypasses noise generated by the internal bandgap. This capacitor allows output noise to be reduced to very low levels.", 5 OUT (power) "Output for the regulator. A small capacitor (total typical capacitance >= 2.0uF ceramic) is needed from this pin to ground to assure stability."

## TPS73150MDBVREP
designator U?
Single Output LDO, 150 mA, Fixed 5 V Output, 1.7 to 5.5 V Input, with Reverse Current Protection, 5-pin SOT-23 (DBV), -55 to 125 degC, Green (RoHS & no Sb/Br); Manufacturer: Texas Instruments; PartNumber: TPS73150MDBVREP; Accuracy(%): 1; Fixed Output Options(V): 5; Iout(Max)(A): 0.15; Iq(Typ)(mA): 0.4; SubFamily: Single Channel LDO; Vdo(Typ)(mV): 30; Vin(Max)(V): 5.5; Vin(Min)(V): 1.7; DatasheetVersion: SGLS347A; PackageVersion: 4073253-4/K; PackageReference: DBV5; PackageDescription: 5-Pin Plastic Small Outline, Body 1.60 × 2.90 mm, Pitch 0.95 mm; Supplier 1: Digi-Key; Supplier Part Number 1: 296-22490-2-ND; Supplier 2: Digi-Key; Supplier Part Number 2: 296-22490-1-ND; Supplier 3: Digi-Key; Supplier Part Number 3: 296-22490-6-ND; Supplier 4: Newark; Supplier Part Number 4: 46M1144; Supplier 5: Mouser; Supplier Part Number 5: 595-TPS73150MDBVREP; Eco-Plan: Green (RoHS & no Sb/Br); Vout Adj(Max)(V): 5; Vout Adj(Min)(V): 5; Mounting Technology: Surface Mount; Code_JEDEC: MO-178; ComponentLink1Description: Manufacturer URL; ComponentLink1URL: http://www.ti.com/; ComponentLink2Description: Datasheet; ComponentLink2URL: http://www.ti.com/general/docs/lit/getliterature.tsp?genericPartNumber=TPS73150-EP&fileType=pdf; ComponentLink3Description: Package Specification; ComponentLink3URL: http://www.ti.com/litv/pdf/mpds018i
footprint TI-DBV5_N (SOT23, 5-Leads, Body 2.9x1.6mm, Pitch 0.95mm, IPC Medium Density)
footprint TI-DBV5_L (SOT23, 5-Leads, Body 2.9x1.6mm, Pitch 0.95mm, IPC High Density)
footprint TI-DBV5_M (SOT23, 5-Leads, Body 2.9x1.6mm, Pitch 0.95mm, IPC Low Density)
pins: 1 IN (power) "Input supply.", 2 GND (power) "Ground.", 3 EN (in) "Driving the enable pin (EN) high turns on the regulator .Driving this pin low puts the regulator into shutdown mode.EN can be connected to IN if not used.", 4 NR "Fixed voltage versions only; connecting an external capacitor to this pin bypasses noise generated by the internal bandgap. This capacitor allows output noise to be reduced to very low levels.", 5 OUT (power) "Output for the regulator. A small capacitor (total typical capacitance >= 2.0uF ceramic) is needed from this pin to ground to assure stability."

## TPS73201DCQ
designator U?
Single Output Fast Transient Response LDO, 250 mA, Adjustable 1.2 to 5.5 V Output, 1.7 to 5.5 V Input, 6-pin SOT-223 (DCQ), -40 to 85 degC, Green (RoHS & no Sb/Br); Manufacturer: Texas Instruments; PartNumber: TPS73201DCQ; Accuracy(%): 1; Iout(Max)(A): 0.25; Iq(Typ)(mA): 0.4; SubFamily: Single Channel LDO; Vdo(Typ)(mV): 40; Vin(Max)(V): 5.5; Vin(Min)(V): 1.7; Vout Adj(Min)(V): 1.2; DatasheetVersion: SBVS037O; PackageVersion: 4202109/D; PackageReference: DCQ6; PackageDescription: 6-Pin Plastic Small Outline, Body 3.5 x 6.5 mm, Pitch 1.27 mm; Supplier 1: Digi-Key; Supplier Part Number 1: 296-27060-5-ND; Supplier 2: Newark; Supplier Part Number 2: 01J0985; Supplier 3: Mouser; Supplier Part Number 3: 595-TPS73201DCQ; Eco-Plan: Green (RoHS & no Sb/Br); Vout Adj(Max)(V): 5.5; Mounting Technology: Surface Mount; ComponentLink1Description: Manufacturer URL; ComponentLink1URL: http://www.ti.com/; ComponentLink2Description: Datasheet; ComponentLink2URL: http://www.ti.com/general/docs/lit/getliterature.tsp?genericPartNumber=TPS73201&fileType=pdf; ComponentLink3Description: Package Specification; ComponentLink3URL: http://www.ti.com/litv/pdf/mpds098c
footprint TI-DCQ6_N (SOT223, 6-Leads, Body 6.5x3.5mm, Pitch 1.27mm, IPC Medium Density)
footprint TI-DCQ6_L (SOT223, 6-Leads, Body 6.5x3.5mm, Pitch 1.27mm, IPC High Density)
footprint TI-DCQ6_M (SOT223, 6-Leads, Body 6.5x3.5mm, Pitch 1.27mm, IPC Low Density)
pins: 1 IN (power) "Input supply", 2 OUT (power) "Output of the Regulator. There are no output capacitor requirements for stability.", 3 GND (power) "Ground", 4 FB (in) "Adjustable voltage version only-this is the input to the control loop error amplifier, and is used to set the output voltage of the device.", 5 EN (in) "Driving the enable pin (EN) high turns on the regulator. Driving this pin low puts the regulator into shutdown mode. Refer to the Shutdown section under Applications Information for more details. EN can be connected to IN if (See Datasheet)", 6 TAB (power) "Ground"

## TPS73201DCQG4
designator U?
Single Output Fast Transient Response LDO, 250 mA, Adjustable 1.2 to 5.5 V Output, 1.7 to 5.5 V Input, 6-pin SOT-223 (DCQ), -40 to 85 degC; Manufacturer: Texas Instruments; PartNumber: TPS73201DCQG4; Accuracy(%): 1; Iout(Max)(A): 0.25; Iq(Typ)(mA): 0.4; SubFamily: Single Channel LDO; Vdo(Typ)(mV): 40; Vin(Max)(V): 5.5; Vin(Min)(V): 1.7; Vout Adj(Min)(V): 1.2; DatasheetVersion: SBVS037O; PackageVersion: 4202109/D; PackageReference: DCQ6; PackageDescription: 6-Pin Plastic Small Outline, Body 3.5 x 6.5 mm, Pitch 1.27 mm; Supplier 1: Digi-Key; Supplier Part Number 1: TPS73201DCQG4-ND; Supplier 2: Mouser; Supplier Part Number 2: 595-TPS73201DCQG4; Vout Adj(Max)(V): 5.5; Mounting Technology: Surface Mount; ComponentLink1Description: Manufacturer URL; ComponentLink1URL: http://www.ti.com/; ComponentLink2Description: Datasheet; ComponentLink2URL: http://www.ti.com/general/docs/lit/getliterature.tsp?genericPartNumber=TPS73201&fileType=pdf; ComponentLink3Description: Package Specification; ComponentLink3URL: http://www.ti.com/litv/pdf/mpds098c
footprint TI-DCQ6_N (SOT223, 6-Leads, Body 6.5x3.5mm, Pitch 1.27mm, IPC Medium Density)
footprint TI-DCQ6_L (SOT223, 6-Leads, Body 6.5x3.5mm, Pitch 1.27mm, IPC High Density)
footprint TI-DCQ6_M (SOT223, 6-Leads, Body 6.5x3.5mm, Pitch 1.27mm, IPC Low Density)
pins: 1 IN (power) "Input supply", 2 OUT (power) "Output of the Regulator. There are no output capacitor requirements for stability.", 3 GND (power) "Ground", 4 FB (in) "Adjustable voltage version only-this is the input to the control loop error amplifier, and is used to set the output voltage of the device.", 5 EN (in) "Driving the enable pin (EN) high turns on the regulator. Driving this pin low puts the regulator into shutdown mode. Refer to the Shutdown section under Applications Information for more details. EN can be connected to IN if (See Datasheet)", 6 TAB (power) "Ground"

## TPS73201DCQR
designator U?
Single Output Fast Transient Response LDO, 250 mA, Adjustable 1.2 to 5.5 V Output, 1.7 to 5.5 V Input, 6-pin SOT-223 (DCQ), -40 to 85 degC, Green (RoHS & no Sb/Br); Manufacturer: Texas Instruments; PartNumber: TPS73201DCQR; Accuracy(%): 1; Iout(Max)(A): 0.25; Iq(Typ)(mA): 0.4; SubFamily: Single Channel LDO; Vdo(Typ)(mV): 40; Vin(Max)(V): 5.5; Vin(Min)(V): 1.7; Vout Adj(Min)(V): 1.2; DatasheetVersion: SBVS037O; PackageVersion: 4202109/D; PackageReference: DCQ6; PackageDescription: 6-Pin Plastic Small Outline, Body 3.5 x 6.5 mm, Pitch 1.27 mm; Supplier 1: Digi-Key; Supplier Part Number 1: 296-16861-2-ND; Supplier 2: Digi-Key; Supplier Part Number 2: 296-16861-1-ND; Supplier 3: Digi-Key; Supplier Part Number 3: 296-16861-6-ND; Supplier 4: Newark; Supplier Part Number 4: 01J0986; Supplier 5: Mouser; Supplier Part Number 5: 595-TPS73201DCQR; Eco-Plan: Green (RoHS & no Sb/Br); Vout Adj(Max)(V): 5.5; Mounting Technology: Surface Mount; ComponentLink1Description: Manufacturer URL; ComponentLink1URL: http://www.ti.com/; ComponentLink2Description: Datasheet; ComponentLink2URL: http://www.ti.com/general/docs/lit/getliterature.tsp?genericPartNumber=TPS73201&fileType=pdf; ComponentLink3Description: Package Specification; ComponentLink3URL: http://www.ti.com/litv/pdf/mpds098c
footprint TI-DCQ6_N (SOT223, 6-Leads, Body 6.5x3.5mm, Pitch 1.27mm, IPC Medium Density)
footprint TI-DCQ6_L (SOT223, 6-Leads, Body 6.5x3.5mm, Pitch 1.27mm, IPC High Density)
footprint TI-DCQ6_M (SOT223, 6-Leads, Body 6.5x3.5mm, Pitch 1.27mm, IPC Low Density)
pins: 1 IN (power) "Input supply", 2 OUT (power) "Output of the Regulator. There are no output capacitor requirements for stability.", 3 GND (power) "Ground", 4 FB (in) "Adjustable voltage version only-this is the input to the control loop error amplifier, and is used to set the output voltage of the device.", 5 EN (in) "Driving the enable pin (EN) high turns on the regulator. Driving this pin low puts the regulator into shutdown mode. Refer to the Shutdown section under Applications Information for more details. EN can be connected to IN if (See Datasheet)", 6 TAB (power) "Ground"

## TPS73201DCQRG4
designator U?
Single Output Fast Transient Response LDO, 250 mA, Adjustable 1.2 to 5.5 V Output, 1.7 to 5.5 V Input, 6-pin SOT-223 (DCQ), -40 to 85 degC; Manufacturer: Texas Instruments; PartNumber: TPS73201DCQRG4; Accuracy(%): 1; Iout(Max)(A): 0.25; Iq(Typ)(mA): 0.4; SubFamily: Single Channel LDO; Vdo(Typ)(mV): 40; Vin(Max)(V): 5.5; Vin(Min)(V): 1.7; Vout Adj(Min)(V): 1.2; DatasheetVersion: SBVS037O; PackageVersion: 4202109/D; PackageReference: DCQ6; PackageDescription: 6-Pin Plastic Small Outline, Body 3.5 x 6.5 mm, Pitch 1.27 mm; Supplier 1: Digi-Key; Supplier Part Number 1: TPS73201DCQRG4-ND; Supplier 2: Newark; Supplier Part Number 2: 28K5744; Supplier 3: Mouser; Supplier Part Number 3: 595-TPS73201DCQRG4; Vout Adj(Max)(V): 5.5; Mounting Technology: Surface Mount; ComponentLink1Description: Manufacturer URL; ComponentLink1URL: http://www.ti.com/; ComponentLink2Description: Datasheet; ComponentLink2URL: http://www.ti.com/general/docs/lit/getliterature.tsp?genericPartNumber=TPS73201&fileType=pdf; ComponentLink3Description: Package Specification; ComponentLink3URL: http://www.ti.com/litv/pdf/mpds098c
footprint TI-DCQ6_N (SOT223, 6-Leads, Body 6.5x3.5mm, Pitch 1.27mm, IPC Medium Density)
footprint TI-DCQ6_L (SOT223, 6-Leads, Body 6.5x3.5mm, Pitch 1.27mm, IPC High Density)
footprint TI-DCQ6_M (SOT223, 6-Leads, Body 6.5x3.5mm, Pitch 1.27mm, IPC Low Density)
pins: 1 IN (power) "Input supply", 2 OUT (power) "Output of the Regulator. There are no output capacitor requirements for stability.", 3 GND (power) "Ground", 4 FB (in) "Adjustable voltage version only-this is the input to the control loop error amplifier, and is used to set the output voltage of the device.", 5 EN (in) "Driving the enable pin (EN) high turns on the regulator. Driving this pin low puts the regulator into shutdown mode. Refer to the Shutdown section under Applications Information for more details. EN can be connected to IN if (See Datasheet)", 6 TAB (power) "Ground"

## TPS73201DRBR
designator U?
Single Output Fast Transient Response LDO, 250 mA, Adjustable 1.2 to 5.5 V Output, 1.7 to 5.5 V Input, 8-pin SON (DRB), -40 to 85 degC, Green (RoHS & no Sb/Br); Manufacturer: Texas Instruments; PartNumber: TPS73201DRBR; Accuracy(%): 1; Iout(Max)(A): 0.25; Iq(Typ)(mA): 0.4; SubFamily: Single Channel LDO; Vdo(Typ)(mV): 40; Vin(Max)(V): 5.5; Vin(Min)(V): 1.7; Vout Adj(Min)(V): 1.2; DatasheetVersion: SBVS037O; PackageVersion: 4203482-2/K; PackageReference: DRB8-1750X1500TP; PackageDescription: 8-Pin Plastic Small Outline, Body 3 x 3 mm, Pitch 0.65 mm; Supplier 1: Digi-Key; Supplier Part Number 1: TPS73201DRBR-ND; Supplier 2: Newark; Supplier Part Number 2: 40K9775; Supplier 3: Mouser; Supplier Part Number 3: 595-TPS73201DRBR; Eco-Plan: Green (RoHS & no Sb/Br); Vout Adj(Max)(V): 5.5; Mounting Technology: Surface Mount; ComponentLink1Description: Manufacturer URL; ComponentLink1URL: http://www.ti.com/; ComponentLink2Description: Datasheet; ComponentLink2URL: http://www.ti.com/general/docs/lit/getliterature.tsp?genericPartNumber=TPS73201&fileType=pdf; ComponentLink3Description: Package Specification; ComponentLink3URL: http://www.ti.com/litv/pdf/mpds118h
footprint TI-DRB8-1750X1500TP_V (SON, 8-Leads, Body 3x3mm, Pitch 0.65mm, Thermal Pad 1.50 x 3.8mm)
part A pins: 1 OUT (power) "Output of the regulator. There are no output capacitor requirements for stability.", 3 FB (in) "Adjustable voltage version only-this is the input to the control loop error amplifier, and is used to set the output voltage of the device.", 4 GND (power) "Ground", 5 EN (in) "Driving the enable pin (EN) high turns on the regulator. Driving this pin low puts the regulator into shutdown mode. See the Shutdown section under Applications Information for more details. EN can be connected to IN if not (See Datasheet)", 8 IN (power) "Input supply", 9 GND (power) "Ground"
part B pins: 2 NC "No internal connection", 6 NC "No internal connection", 7 NC "No internal connection"

## TPS73201DRBRG4
designator U?
Single Output Fast Transient Response LDO, 250 mA, Adjustable 1.2 to 5.5 V Output, 1.7 to 5.5 V Input, 8-pin SON (DRB), -40 to 85 degC, Green (RoHS & no Sb/Br); Manufacturer: Texas Instruments; PartNumber: TPS73201DRBRG4; Accuracy(%): 1; Iout(Max)(A): 0.25; Iq(Typ)(mA): 0.4; SubFamily: Single Channel LDO; Vdo(Typ)(mV): 40; Vin(Max)(V): 5.5; Vin(Min)(V): 1.7; Vout Adj(Min)(V): 1.2; DatasheetVersion: SBVS037O; PackageVersion: 4203482-2/K; PackageReference: DRB8-1750X1500TP; PackageDescription: 8-Pin Plastic Small Outline, Body 3 x 3 mm, Pitch 0.65 mm; Supplier 1: Digi-Key; Supplier Part Number 1: TPS73201DRBRG4-ND; Supplier 2: Mouser; Supplier Part Number 2: 595-TPS73201DRBRG4; Eco-Plan: Green (RoHS & no Sb/Br); Vout Adj(Max)(V): 5.5; Mounting Technology: Surface Mount; ComponentLink1Description: Manufacturer URL; ComponentLink1URL: http://www.ti.com/; ComponentLink2Description: Datasheet; ComponentLink2URL: http://www.ti.com/general/docs/lit/getliterature.tsp?genericPartNumber=TPS73201&fileType=pdf; ComponentLink3Description: Package Specification; ComponentLink3URL: http://www.ti.com/litv/pdf/mpds118h
footprint TI-DRB8-1750X1500TP_V (SON, 8-Leads, Body 3x3mm, Pitch 0.65mm, Thermal Pad 1.50 x 3.8mm)
part A pins: 1 OUT (power) "Output of the regulator. There are no output capacitor requirements for stability.", 3 FB (in) "Adjustable voltage version only-this is the input to the control loop error amplifier, and is used to set the output voltage of the device.", 4 GND (power) "Ground", 5 EN (in) "Driving the enable pin (EN) high turns on the regulator. Driving this pin low puts the regulator into shutdown mode. See the Shutdown section under Applications Information for more details. EN can be connected to IN if not (See Datasheet)", 8 IN (power) "Input supply", 9 GND (power) "Ground"
part B pins: 2 NC "No internal connection", 6 NC "No internal connection", 7 NC "No internal connection"

## TPS73201DRBT
designator U?
Single Output Fast Transient Response LDO, 250 mA, Adjustable 1.2 to 5.5 V Output, 1.7 to 5.5 V Input, 8-pin SON (DRB), -40 to 85 degC, Green (RoHS & no Sb/Br); Manufacturer: Texas Instruments; PartNumber: TPS73201DRBT; Accuracy(%): 1; Iout(Max)(A): 0.25; Iq(Typ)(mA): 0.4; SubFamily: Single Channel LDO; Vdo(Typ)(mV): 40; Vin(Max)(V): 5.5; Vin(Min)(V): 1.7; Vout Adj(Min)(V): 1.2; DatasheetVersion: SBVS037O; PackageVersion: 4203482-2/K; PackageReference: DRB8-1750X1500TP; PackageDescription: 8-Pin Plastic Small Outline, Body 3 x 3 mm, Pitch 0.65 mm; Supplier 1: Digi-Key; Supplier Part Number 1: 296-18079-2-ND; Supplier 2: Digi-Key; Supplier Part Number 2: 296-18079-1-ND; Supplier 3: Digi-Key; Supplier Part Number 3: 296-18079-6-ND; Supplier 4: Farnell; Supplier Part Number 4: 1412731; Supplier 5: Mouser; Supplier Part Number 5: 595-TPS73201DRBT; Eco-Plan: Green (RoHS & no Sb/Br); Vout Adj(Max)(V): 5.5; Mounting Technology: Surface Mount; ComponentLink1Description: Manufacturer URL; ComponentLink1URL: http://www.ti.com/; ComponentLink2Description: Datasheet; ComponentLink2URL: http://www.ti.com/general/docs/lit/getliterature.tsp?genericPartNumber=TPS73201&fileType=pdf; ComponentLink3Description: Package Specification; ComponentLink3URL: http://www.ti.com/litv/pdf/mpds118h
footprint TI-DRB8-1750X1500TP_V (SON, 8-Leads, Body 3x3mm, Pitch 0.65mm, Thermal Pad 1.50 x 3.8mm)
part A pins: 1 OUT (power) "Output of the regulator. There are no output capacitor requirements for stability.", 3 FB (in) "Adjustable voltage version only-this is the input to the control loop error amplifier, and is used to set the output voltage of the device.", 4 GND (power) "Ground", 5 EN (in) "Driving the enable pin (EN) high turns on the regulator. Driving this pin low puts the regulator into shutdown mode. See the Shutdown section under Applications Information for more details. EN can be connected to IN if not (See Datasheet)", 8 IN (power) "Input supply", 9 GND (power) "Ground"
part B pins: 2 NC "No internal connection", 6 NC "No internal connection", 7 NC "No internal connection"

## TPS73201DRBTG4
designator U?
Single Output Fast Transient Response LDO, 250 mA, Adjustable 1.2 to 5.5 V Output, 1.7 to 5.5 V Input, 8-pin SON (DRB), -40 to 85 degC, Green (RoHS & no Sb/Br); Manufacturer: Texas Instruments; PartNumber: TPS73201DRBTG4; Accuracy(%): 1; Iout(Max)(A): 0.25; Iq(Typ)(mA): 0.4; SubFamily: Single Channel LDO; Vdo(Typ)(mV): 40; Vin(Max)(V): 5.5; Vin(Min)(V): 1.7; Vout Adj(Min)(V): 1.2; DatasheetVersion: SBVS037O; PackageVersion: 4203482-2/K; PackageReference: DRB8-1750X1500TP; PackageDescription: 8-Pin Plastic Small Outline, Body 3 x 3 mm, Pitch 0.65 mm; Supplier 1: Digi-Key; Supplier Part Number 1: TPS73201DRBTG4-ND; Supplier 2: Mouser; Supplier Part Number 2: 595-TPS73201DRBTG4; Eco-Plan: Green (RoHS & no Sb/Br); Vout Adj(Max)(V): 5.5; Mounting Technology: Surface Mount; ComponentLink1Description: Manufacturer URL; ComponentLink1URL: http://www.ti.com/; ComponentLink2Description: Datasheet; ComponentLink2URL: http://www.ti.com/general/docs/lit/getliterature.tsp?genericPartNumber=TPS73201&fileType=pdf; ComponentLink3Description: Package Specification; ComponentLink3URL: http://www.ti.com/litv/pdf/mpds118h
footprint TI-DRB8-1750X1500TP_V (SON, 8-Leads, Body 3x3mm, Pitch 0.65mm, Thermal Pad 1.50 x 3.8mm)
part A pins: 1 OUT (power) "Output of the regulator. There are no output capacitor requirements for stability.", 3 FB (in) "Adjustable voltage version only-this is the input to the control loop error amplifier, and is used to set the output voltage of the device.", 4 GND (power) "Ground", 5 EN (in) "Driving the enable pin (EN) high turns on the regulator. Driving this pin low puts the regulator into shutdown mode. See the Shutdown section under Applications Information for more details. EN can be connected to IN if not (See Datasheet)", 8 IN (power) "Input supply", 9 GND (power) "Ground"
part B pins: 2 NC "No internal connection", 6 NC "No internal connection", 7 NC "No internal connection"